# Altium footprint library FP-B4B-PH-SM4-TB-MFG.PcbLib: 1 footprints
Each footprint in its own frame and in the unit in brackets; x right, y up, seen from the top. Pads: shape width x height; smd on the part's side, far side on the other; paste and mask are expansions set on the pad; w line width, h text height; cw(c..) or ccw(c..) is an arc to the next point about the centre after c.
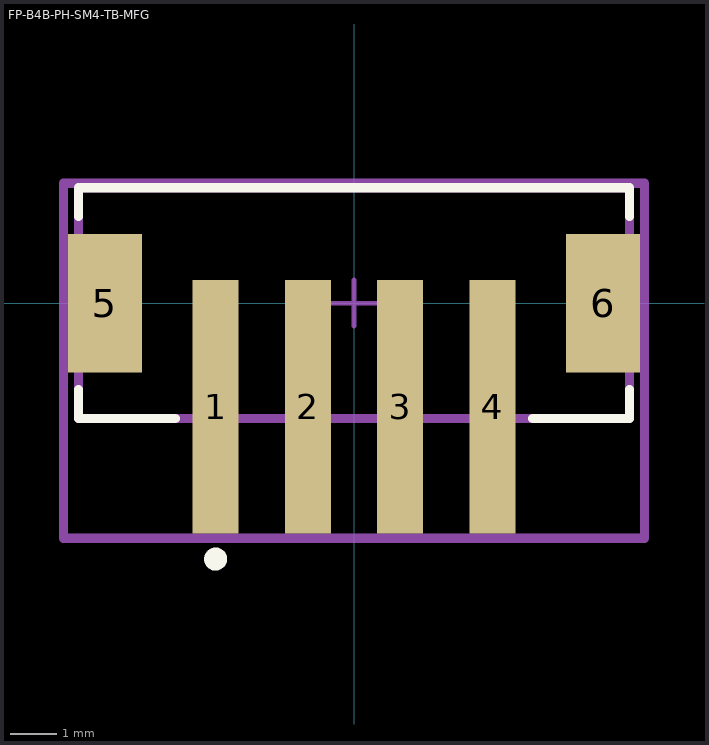
[diagram p0: the footprint, top view; thin cyan lines are the x and y axes]

## FP-B4B-PH-SM4-TB-MFG [mm]
pads (6):
  rect 1x5.5 smd paste+0 mask+0: 1(-3,-2.25) 2(-1,-2.25) 3(1,-2.25) 4(3,-2.25)
  rect 1.6x3 smd paste+0 mask+0: 5(-5.4,0) 6(5.4,0)
Top Overlay:
  circle w0.25: c-3,-5.55 r0.125
  lines w0.2: -5.975,-1.875 -5.975,-2.5 -3.875,-2.5 ; -5.975,1.875 -5.975,2.5 5.975,2.5 5.975,1.875 ; 3.875,-2.5 5.975,-2.5 5.975,-1.875
Top Assembly:
  lines w0.2: -6.3,-5.1 -6.3,2.6 6.3,2.6 6.3,-5.1 -6.3,-5.1
  text ".Designator" at 0,-1.25 h1
Top 3D Body:
  lines w0.2: -5.975,-2.5 -5.975,2.5 5.975,2.5 5.975,-2.5 -5.975,-2.5
Top Courtyard:
  lines w0.2: -6.3,-5.1 -6.3,2.6 6.3,2.6 6.3,-5.1 -6.3,-5.1
Top Component Center:
  lines w0.1: -0.5,0 0.5,0 ; 0,-0.5 0,0.5
3D body "Conn_JST_B4B-PH-SM4-TB_eec.STEP": height 0.25, standoff 0, extent -6.3,-5.1 6.3,2.6